# Altium schematic symbol library SCH - POWER - LINEAR VREG - TI TPS72010-Q1DRV.SchLib: 1 symbol
Pins are listed as number, name and electrical type; pins without a type are passive.

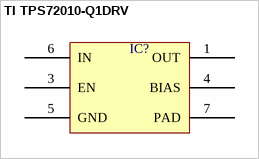
[diagram p0: symbol TI TPS72010-Q1DRV]

## TI TPS72010-Q1DRV
designator IC?  (value not drawn)
pins: 1 OUT, 3 EN, 4 BIAS, 5 GND, 6 IN, 7 PAD